# Altium footprint library PCB - LED - LED 0805_2012 GREEN.PCBLIB: 1 footprints
Each footprint in its own frame and in the unit in brackets; x right, y up, seen from the top. Pads: shape width x height; smd on the part's side, far side on the other; paste and mask are expansions set on the pad; w line width, h text height; cw(c..) or ccw(c..) is an arc to the next point about the centre after c.
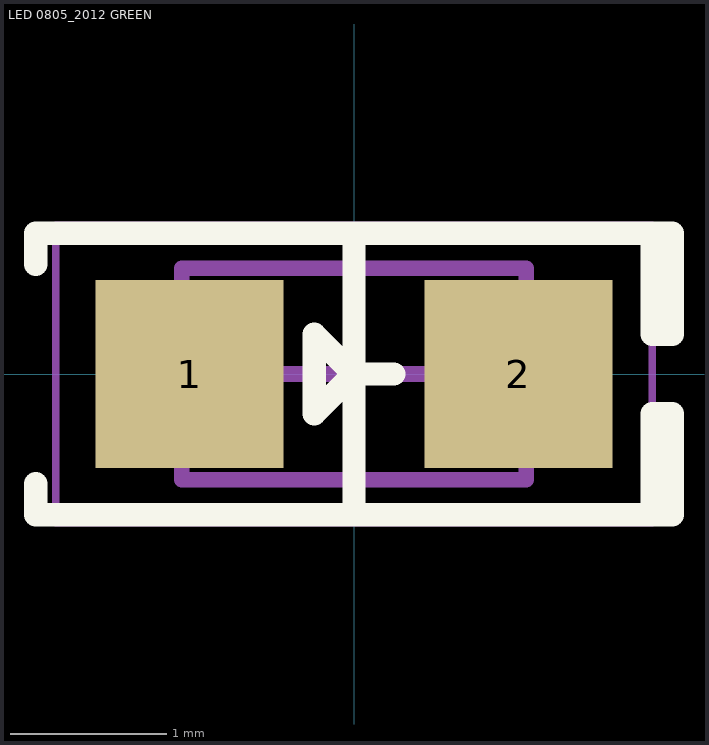
[diagram p0: the footprint, top view; thin cyan lines are the x and y axes]

## LED 0805_2012 GREEN [mm] "Chip Diode, 2-Leads, Body 2.00x1.25mm, IPC Medium Density"
height 0.7
pads (2):
  rect 1.2x1.2 smd: 1(-1.05,0) 2(1.05,0)
Top Overlay:
  lines w0.15: -2.032,-0.7 -2.032,-0.9 1.905,-0.9 ; -2.032,0.7 -2.032,0.9 1.905,0.9 ; 0,-0.9 0,0.9 ; 0.254,0 0,0 ; 0,0 -0.254,0.254 -0.254,-0.254 0,0 ; 1.905,-0.9 1.905,-0.254 2.032,-0.254 2.032,-0.9 1.905,-0.9 ; 1.905,0.9 1.905,0.254 2.032,0.254 2.032,0.9 1.905,0.9
Mechanical 13:
  lines w0.1: -1.1,-0.675 -1.1,0.675 1.1,0.675 1.1,-0.675 -1.1,-0.675
Mechanical 15:
  lines w0.05: -1.905,-0.95 -1.905,0.95 1.905,0.95 1.905,-0.95 -1.905,-0.95
Mechanical 2 (Mech9):
  lines w0.1: -0.5,0 0.5,0 ; 0,-0.5 0,0.5
3D body "LED 0805 Base GREEN.STEP": height 0.4, standoff 0, extent -1,-0.625 1,0.625
3D body "LED 0805 Lens GREEN.STEP": height 0.9, standoff 0.3, extent -0.65,-0.625 0.65,0.625